# EAGLE library part SKY67107 (library RADAR)
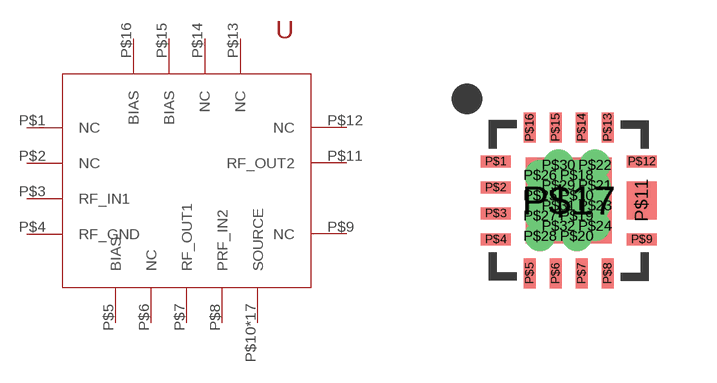
[diagram p4: symbol with the pads of SKY67107; footprint SKY67107]

Designator prefix -

## SKY67107  [SKY67107]
P$1  NC  nc
P$2  NC  nc
P$3  RF_IN1
P$4  RF_GND
P$5  BIAS
P$6  NC  nc
P$7  RF_OUT1
P$8  PRF_IN2
P$9  NC  nc
P$10  SOURCE
P$11  RF_OUT2
P$12  NC  nc
P$13  NC
P$14  NC
P$15  BIAS
P$16  BIAS
P$17  SOURCE
P$18  SOURCE
P$19  SOURCE
P$20  SOURCE
P$21  SOURCE
P$22  SOURCE
P$23  SOURCE
P$24  SOURCE
P$25  SOURCE
P$26  SOURCE
P$27  SOURCE
P$28  SOURCE
P$29  SOURCE
P$30  SOURCE
P$31  SOURCE
P$32  SOURCE

## Footprint SKY67107 (pad centres in mm)
smd 0.75 x 0.3: P$1 -1.825,0.975; P$2 -1.825,0.325; P$3 -1.825,-0.325; P$4 -1.825,-0.975; P$9 1.825,-0.975; P$12 1.825,0.975
smd 0.3 x 0.75: P$5 -0.975,-1.825; P$6 -0.325,-1.825; P$7 0.325,-1.825; P$8 0.975,-1.825; P$13 0.975,1.825; P$14 0.325,1.825; P$15 -0.325,1.825; P$16 -0.975,1.825
drill 0.254 pad 0.305: P$10 0.203,0.127; P$18 0.203,0.635; P$19 0.203,-0.381; P$20 0.203,-0.889; P$21 0.66,0.381; P$22 0.66,0.889; P$23 0.66,-0.127; P$24 0.66,-0.635; P$25 -0.711,0.127; P$26 -0.711,0.635; P$27 -0.711,-0.381; P$28 -0.711,-0.889; P$29 -0.254,0.381; P$30 -0.254,0.889; P$31 -0.254,-0.127; P$32 -0.254,-0.635
smd 0.75 x 0.95: P$11 1.825,0
smd 2.15 x 2.15: P$17 0,0